# Altium schematic symbol library CD系列芯片.SchLib: 4 symbols
Pins are listed as number, name and electrical type; pins without a type are passive.

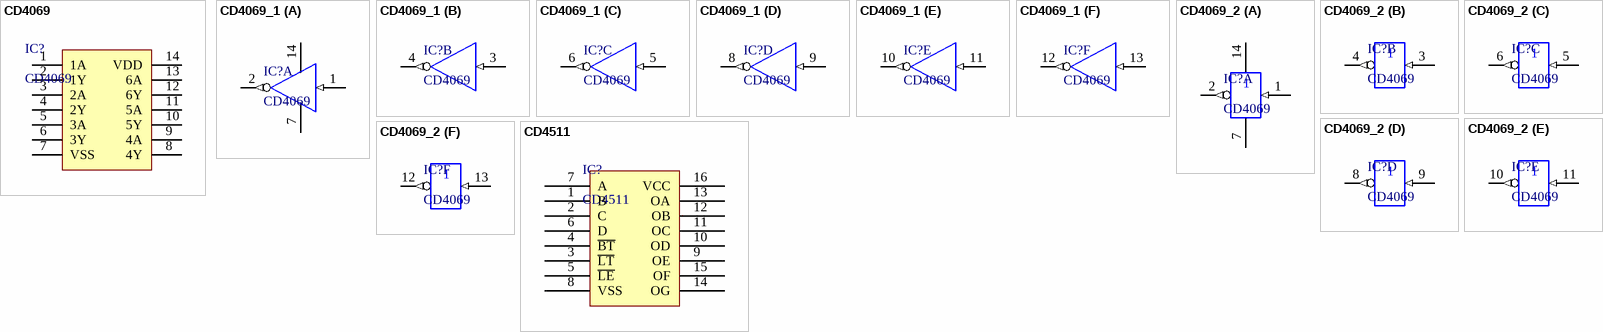
[diagram p0: symbols CD4069 to CD4511]

## CD4069
designator IC?
6路反相器; 版权归属: 源创客; BOM名称: 6路反相器; 学习资源: www.ooocke.com
footprint DIP14-300 (19*7.6*3.8(长宽高）)
footprint DIP14-300_MH (带底座  19*7.6*3.8(长宽高）)
footprint SOP14_L (8.7*6.2*1.8mm（长宽高）)
footprint SOP14_M (8.7*6.2*1.8mm（长宽高）)
footprint SOP14_N (8.7*6.2*1.8mm（长宽高）)
pins: 1 1A, 2 1Y, 3 2A, 4 2Y, 5 3A, 6 3Y, 7 VSS, 8 4Y, 9 4A, 10 5Y, 11 5A, 12 6Y, 13 6A, 14 VDD

## CD4069_1
designator IC?, comment CD4069
6路反相器(美标); 版权归属: 源创客; BOM名称: 6路反相器; 学习资源: www.ooocke.com
footprint DIP14-300 (19*7.6*3.8(长宽高）)
footprint DIP14-300_MH (带底座  19*7.6*3.8(长宽高）)
footprint SOP14_L (8.7*6.2*1.8mm（长宽高）)
footprint SOP14_M (8.7*6.2*1.8mm（长宽高）)
footprint SOP14_N (8.7*6.2*1.8mm（长宽高）)
part A pins: 1 A (in), 2 Y (out), 7 VSS, 14 VDD
part B pins: 3 A (in), 4 Y (out)
part C pins: 5 A (in), 6 Y (out)
part D pins: 8 Y (out), 9 A (in)
part E pins: 10 Y (out), 11 A (in)
part F pins: 12 Y (out), 13 A (in)

## CD4069_2
designator IC?, comment CD4069
6路反相器(国标); 版权归属: 源创客; BOM名称: 6路反相器; 学习资源: www.ooocke.com
footprint DIP14-300 (19*7.6*3.8(长宽高）)
footprint DIP14-300_MH (带底座  19*7.6*3.8(长宽高）)
footprint SOP14_L (8.7*6.2*1.8mm（长宽高）)
footprint SOP14_M (8.7*6.2*1.8mm（长宽高）)
footprint SOP14_N (8.7*6.2*1.8mm（长宽高）)
part A pins: 1 A (in), 2 Y (out), 7 VSS, 14 VDD
part B pins: 3 A (in), 4 Y (out)
part C pins: 5 A (in), 6 Y (out)
part D pins: 8 Y (out), 9 A (in)
part E pins: 10 Y (out), 11 A (in)
part F pins: 12 Y (out), 13 A (in)

## CD4511
designator IC?
七段码译码器; 版权归属: 源创客; BOM名称: 七段码译码器; 学习资源: www.ooocke.com
footprint DIP16-300_MH (带底座 19.3*7.6*3.8(长宽高）)
footprint DIP16-300 (19.3*7.6*3.8(长宽高）)
footprint SOP16_L (10.3*6.2*1.8mm（长宽高）)
footprint SOP16_N (10.3*6.2*1.8mm（长宽高）)
footprint SOP16_M (10.3*6.2*1.8mm（长宽高）)
pins: 1 B, 2 C, 3 ~{LT}, 4 ~{BT}, 5 ~{LE}, 6 D, 7 A, 8 VSS (power), 9 OE (power), 10 OD (power), 11 OC (power), 12 OB (power), 13 OA (power), 14 OG (power), 15 OF (power), 16 VCC (power)